# Altium footprint library STM32F303CCT6.PcbLib: 1 footprints
Each footprint in its own frame and in the unit in brackets; x right, y up, seen from the top. Pads: shape width x height; smd on the part's side, far side on the other; paste and mask are expansions set on the pad; w line width, h text height; cw(c..) or ccw(c..) is an arc to the next point about the centre after c.
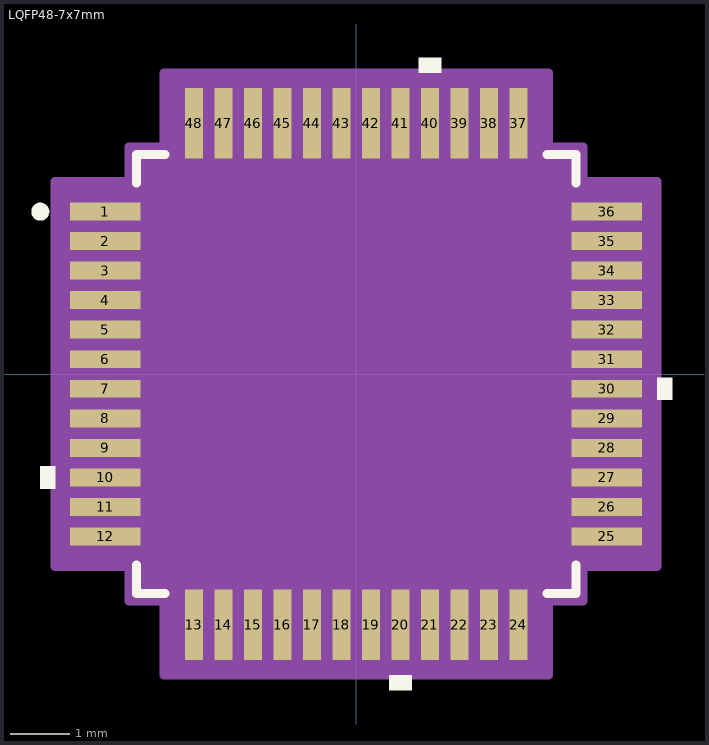
[diagram p0: the footprint, top view; thin cyan lines are the x and y axes]

## LQFP48-7x7mm [mm]
pads (48):
  rect 1.194x0.305 smd paste+0 mask+0: 1(-4.25,2.75) 2(-4.25,2.25) 3(-4.25,1.75) 4(-4.25,1.25) 5(-4.25,0.75) 6(-4.25,0.25) 7(-4.25,-0.25) 8(-4.25,-0.75) 9(-4.25,-1.25) 10(-4.25,-1.75) 11(-4.25,-2.25) 12(-4.25,-2.75) 25(4.25,-2.75) 26(4.25,-2.25) 27(4.25,-1.75) 28(4.25,-1.25) 29(4.25,-0.75) 30(4.25,-0.25) 31(4.25,0.25) 32(4.25,0.75) 33(4.25,1.25) 34(4.25,1.75) 35(4.25,2.25) 36(4.25,2.75)
  rect 0.305x1.194 smd paste+0 mask+0: 13(-2.75,-4.25) 14(-2.25,-4.25) 15(-1.75,-4.25) 16(-1.25,-4.25) 17(-0.75,-4.25) 18(-0.25,-4.25) 19(0.25,-4.25) 20(0.75,-4.25) 21(1.25,-4.25) 22(1.75,-4.25) 23(2.25,-4.25) 24(2.75,-4.25) 37(2.75,4.25) 38(2.25,4.25) 39(1.75,4.25) 40(1.25,4.25) 41(0.75,4.25) 42(0.25,4.25) 43(-0.25,4.25) 44(-0.75,4.25) 45(-1.25,4.25) 46(-1.75,4.25) 47(-2.25,4.25) 48(-2.75,4.25)
Top Overlay:
  circle w0.152: c-5.351,2.75 r0.076
  region: -5.101,-1.559 -5.355,-1.559 -5.355,-1.94 -5.101,-1.94
  region: 0.941,-5.101 0.56,-5.101 0.56,-5.355 0.941,-5.355
  region: 5.101,-0.059 5.355,-0.059 5.355,-0.44 5.101,-0.44
  region: 1.441,5.101 1.06,5.101 1.06,5.355 1.441,5.355
  lines w0.152: -3.721,-3.235 -3.721,-3.721 -3.235,-3.721 ; -3.721,3.235 -3.721,3.721 -3.235,3.721 ; 3.235,-3.721 3.721,-3.721 3.721,-3.235 ; 3.235,3.721 3.721,3.721 3.721,3.235
Mechanical 13:
  circle w0: c-3.018,2.75 r0.076
  lines w0.025: -3.594,2.324 -2.324,3.594 ; -3.594,-3.594 3.594,-3.594 3.594,3.594 -3.594,3.594 -3.594,-3.594
Mechanical 15:
  region: -3.258,-3.848 -3.848,-3.848 -3.848,-3.258 -5.101,-3.258 -5.101,3.258 -3.848,3.258 -3.848,3.848 -3.258,3.848 -3.258,5.101 3.258,5.101 3.258,3.848 3.848,3.848 3.848,3.258 5.101,3.258 5.101,-3.258 3.848,-3.258 3.848,-3.848 3.258,-3.848 3.258,-5.101 -3.258,-5.101
  lines w0.152: -5.101,-3.258 -3.848,-3.258 -3.848,-3.848 -3.258,-3.848 -3.258,-5.101 3.258,-5.101 3.258,-3.848 3.848,-3.848 3.848,-3.258 5.101,-3.258 5.101,3.258 3.848,3.258 3.848,3.848 3.258,3.848 3.258,5.101 -3.258,5.101 -3.258,3.848 -3.848,3.848 -3.848,3.258 -5.101,3.258 -5.101,-3.258
3D body "LQFP48-7x7mm.step": height 1.6, standoff 0, extent -4.497,-4.497 4.497,4.497